# EAGLE library part DMP3007LSS-13 (library DMP3007LSS-13)
MOSFET MOSFET BVDSS: 8V-24V Source: Datasheet <https://www.diodes.com//assets/Datasheets/DMP3007LSS.pdf>
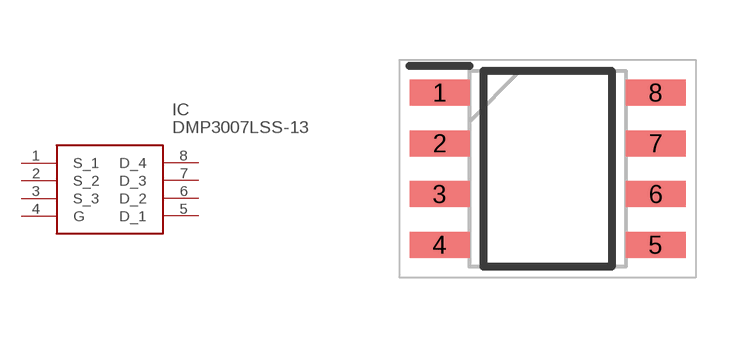
[diagram p0: symbol with the pads of SOIC127P600X175-8N; footprint SOIC127P600X175-8N]

Designator prefix IC

## DMP3007LSS-13 (Description: MOSFET MOSFET BVDSS: 8V-24V; Height: 1.75mm; Manufacturer_Name: Diodes Incorporated; Manufacturer_Part_Number: DMP3007LSS-13; Mouser_Part_Number: 621-DMP3007LSS-13; Mouser_Price-Stock: https://www.mouser.co.uk/ProductDetail/Diodes-Incorporated/DMP3007LSS-13?qs=qSfuJ%252Bfl%2Fd6BWzce%2FirNpQ%3D%3D)  [SOIC127P600X175-8N]
1  S_1
2  S_2
3  S_3
4  G
5  D_1
6  D_2
7  D_3
8  D_4

## Footprint SOIC127P600X175-8N (pad centres in mm)
SO-8
smd 1.5 x 0.65: 1 -2.7,1.905; 2 -2.7,0.635; 3 -2.7,-0.635; 4 -2.7,-1.905; 5 2.7,-1.905; 6 2.7,-0.635; 7 2.7,0.635; 8 2.7,1.905